# EAGLE library part TEXAS_INSTRUMENTS-DIGITAL_QUAD_SPDT-TS3L110PWR (library Module_ICs)
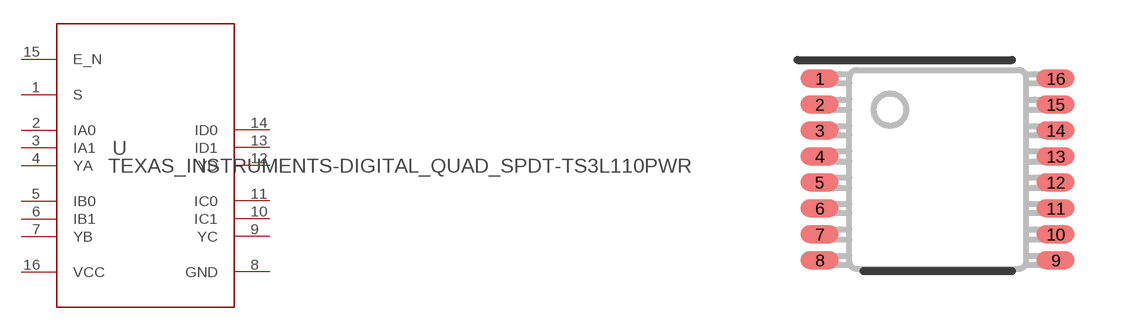
[diagram p9: symbol with the pads of TEXAS_INSTRUMENTS-MICROCONTROLLER-MSP430FR2512IPW1/MUX/DEMUX-SN74CB3Q3257PWR/DIGITAL_QUAD_SPDT-TS3L110PWR; footprint TEXAS_INSTRUMENTS-MICROCONTROLLER-MSP430FR2512IPW1/MUX/DEMUX-SN74CB3Q3257PWR/DIGITAL_QUAD_SPDT-TS3L110PWR]

Designator prefix U

## TEXAS_INSTRUMENTS-DIGITAL_QUAD_SPDT-TS3L110PWR (MANUFACTURER: Texas Instruments; PARTNUMBER: TS3L110PWR; REFDES: RefDes; TYPE: TYPE; VALUE: Value)  [TEXAS_INSTRUMENTS-MICROCONTROLLER-MSP430FR2512IPW1/MUX/DEMUX-SN74CB3Q3257PWR/DIGITAL_QUAD_SPDT-TS3L110PWR]
1  S  in
2  IA0
3  IA1
4  YA
5  IB0
6  IB1
7  YB
8  GND  pwr
9  YC
10  IC1
11  IC0
12  YD
13  ID1
14  ID0
15  E_N  in
16  VCC  pwr

## Footprint TEXAS_INSTRUMENTS-MICROCONTROLLER-MSP430FR2512IPW1/MUX/DEMUX-SN74CB3Q3257PWR/DIGITAL_QUAD_SPDT-TS3L110PWR (pad centres in mm)
smd 0.95 x 0.45: 1 -2.95,2.275; 2 -2.95,1.625; 3 -2.95,0.975; 4 -2.95,0.325; 5 -2.95,-0.325; 6 -2.95,-0.975; 7 -2.95,-1.625; 8 -2.95,-2.275; 9 2.95,-2.275; 10 2.95,-1.625; 11 2.95,-0.975; 12 2.95,-0.325; 13 2.95,0.325; 14 2.95,0.975; 15 2.95,1.625; 16 2.95,2.275